# Altium schematic symbol library headers.SchLib: 2 symbols
Pins are listed as number, name and electrical type; pins without a type are passive.

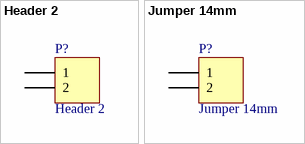
[diagram p0: symbols Header 2 to Jumper 14mm]

## Header 2
designator P?
Header, 2-Pin; LatestRevisionDate: 17-Jul-2002; LatestRevisionNote: Re-released for DXP Platform.; Publisher: Altium Limited
footprint HDR2_pin (Connector; Header; 2 Position)
signal-integrity model Connector
pins: 1, 2

## Jumper 14mm
designator P?
LatestRevisionDate: 17-Jul-2002; LatestRevisionNote: Re-released for DXP Platform.; Publisher: Altium Limited
footprint jumper1 (Connector; Header; 2 Position)
signal-integrity model Connector
pins: 1, 2